# Altium schematic symbol library RF Connector Molex 73412.Schlib: 1 symbol
Pins are listed as number, name and electrical type; pins without a type are passive.

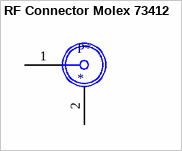
[diagram p0: symbol RF Connector Molex 73412]

## RF Connector Molex 73412
designator P*
ComponentLink1Description: LCSC - MOLEX 73412; ComponentLink1URL: https://lcsc.com/product-detail/RF-Connectors-Coaxial-Connectors_MOLEX-734120114_C277719.html; LCSC Part #: C277719; JLCPCB Part Type: Extended
footprint MOLEX 73412
pins: 1, 2